# Altium integrated library Relay.IntLib: 1 symbol
Pins are listed as number, name and electrical type; pins without a type are passive.

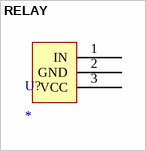
[diagram p0: symbol RELAY]

## RELAY
designator U?
footprint RELAY
pins: 1 IN, 2 GND, 3 VCC